# EAGLE library part TPS7H1201-HT (library psas_c3_team05)
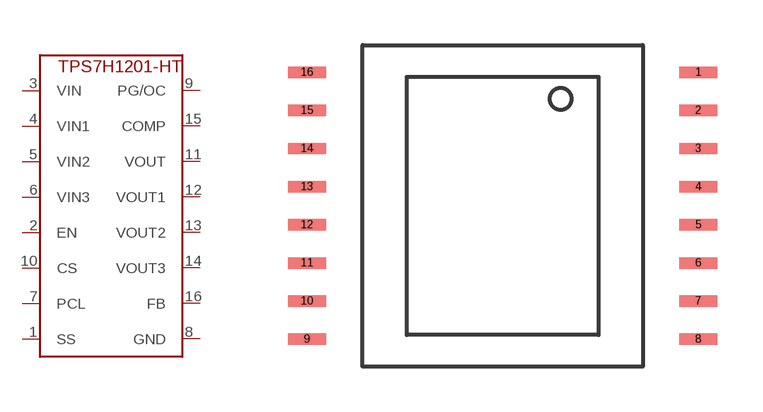
[diagram p15: symbol with the pads of TPS7H1201-HT; footprint TPS7H1201-HT]

Designator prefix -

## TPS7H1201-HT  [TPS7H1201-HT]
1  SS
2  EN
3  VIN
4  VIN1
5  VIN2
6  VIN3
7  PCL
8  GND
9  PG/OC
10  CS
11  VOUT
12  VOUT1
13  VOUT2
14  VOUT3
15  COMP
16  FB

## Footprint TPS7H1201-HT (pad centres in mm)
smd 1.27 x 0.38: 1 11.18,-0.91; 2 11.18,-2.18; 3 11.18,-3.45; 4 11.18,-4.72; 5 11.18,-5.99; 6 11.18,-7.26; 7 11.18,-8.53; 8 11.18,-9.8; 9 -1.85,-9.8; 10 -1.85,-8.53; 11 -1.85,-7.26; 12 -1.85,-5.99; 13 -1.85,-4.72; 14 -1.85,-3.45; 15 -1.85,-2.18; 16 -1.85,-0.91